# EAGLE library part SD103ATW-7-F (library archived)
Diode array: 3x
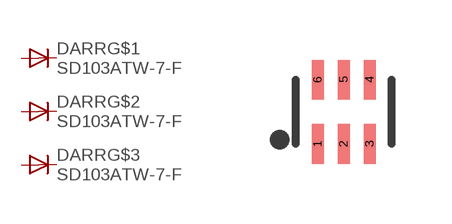
[diagram p3: symbol with the pads of SOT363; footprint SOT363]

Designator prefix DARR; gates G$1=DIODE G$2=DIODE G$3=DIODE

## SD103ATW-7-F  [SOT363]
1  G$1:C  pas
2  G$2:C  pas
3  G$3:C  pas
4  G$3:A  pas
5  G$2:A  pas
6  G$1:A  pas

## Footprint SOT363 (pad centres in mm)
SOT363 Copied from somewhere, seems to work well.
smd 0.3 x 0.99: 1 -0.65,-0.8; 2 0,-0.8; 3 0.65,-0.8; 4 0.65,0.81; 5 0,0.81; 6 -0.65,0.81